# Altium footprint library HARSH_Payload_PcbLib.PcbLib: 44 footprints (part 1 of 3)
Each footprint in its own frame and in the unit in brackets; x right, y up, seen from the top. Pads: shape width x height; smd on the part's side, far side on the other; paste and mask are expansions set on the pad; w line width, h text height; cw(c..) or ccw(c..) is an arc to the next point about the centre after c.
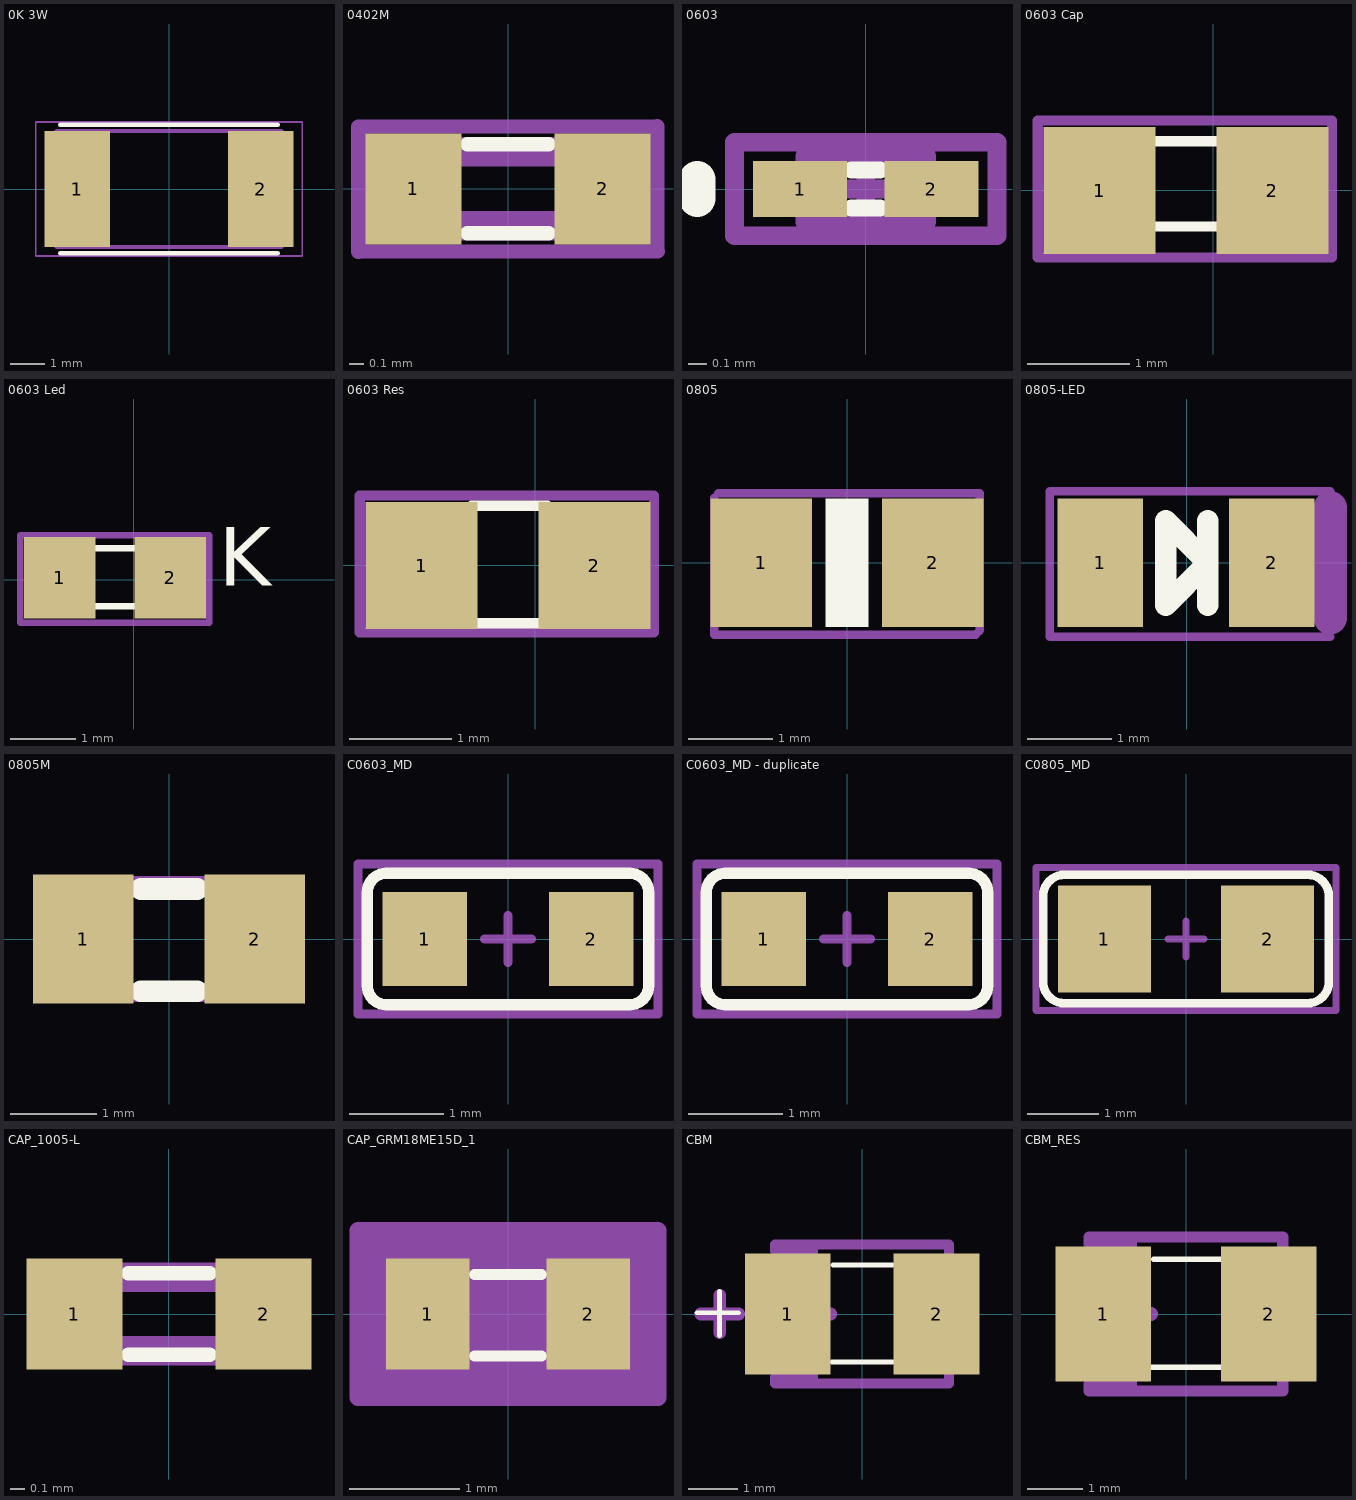
[diagram p0: the footprints below, top view; thin cyan lines are the x and y axes]

## 0K 3W [mm]
pads (2):
  rect 1.9x3.37 smd: 1(-2.66,0) 2(2.66,0)
Top Overlay:
  lines w0.127: -3.15,-1.865 3.15,-1.865 ; -3.15,1.865 3.15,1.865
Mechanical 1:
  lines w0.05: -3.86,-1.94 3.86,-1.94 3.86,1.94 -3.86,1.94 -3.86,-1.94
  lines w0.127: -3.25,-1.68 3.25,-1.68 3.25,1.68 -3.25,1.68 -3.25,-1.68
3D body "RCL1225.step": height 0.8, standoff 0, extent -3.351,-1.675 3.149,1.725

## 0402M [mil] "0402M"
pads (2):
  rect 26x30 smd: 1(-25.59,0) 2(25.59,0)
Top Overlay:
  lines w3.94: -11,-12 11,-12 ; -11,12 11,12
Mechanical 2:
  lines w8: -20,-10 20,-10 ; -20,10 20,10
Mechanical 3:
  lines w3.94: -40.55,16.83 40.35,16.93 40.35,-16.83 ; -40.45,-17.03 40.45,-16.93 ; -40.45,-16.93 -40.45,16.83
  text "'.Designator'" at -44.09,-12.6 h27.56
Mechanical 16:
  lines w8: -20,-10 -20,10 ; 20,-10 20,10
3D body "CAPC-0402-T0.55-BN.stp": height 21.65, standoff 0, extent -20.66,-10.82 20.68,10.83

## 0603 [mm] "Chip Inductor, Body 0.6x0.3mm, IPC High Density"
height 0.55
pads (2):
  rect 0.5x0.3 smd: 1(-0.35,0) 2(0.35,0)
Top Overlay:
  lines w0.09: -0.076,-0.102 0.076,-0.102 ; -0.076,0.102 0.076,0.102
  lines w0.2: -0.9,-0.05 -0.9,0.05
Mechanical 13:
  lines w0.1: -0.325,-0.175 0.325,-0.175 0.325,0.175 -0.325,0.175 -0.325,-0.175
ASM Top:
  lines w0.1: -0.175,0 0.175,0 ; 0,-0.175 0,0.175 ; -0.7,-0.25 0.7,-0.25 0.7,0.25 -0.7,0.25 -0.7,-0.25
3D body: height 0.55, standoff 0, extent -0.325,-0.175 0.325,0.175

## 0603 Cap [mm] "0603 Cap"
height 0.8
pads (2):
  rect 1.1x1.25 smd: 1(-1.118,-0.002) 2(0.583,-0.002)
Top Overlay:
  lines w0.1: -0.648,0.483 0.102,0.483 ; -0.623,-0.356 0.127,-0.356
ASM Top:
  lines w0.1: -1.725,-0.66 1.168,-0.66 1.168,0.686 -1.725,0.686 -1.725,-0.66
  text ".Designator" at -1.075,-0.175 h0.5
3D body "CAPC-0603-T0.9-BN.stp": height 0.44, standoff -0.46, extent -1.118,-0.453 0.583,0.448

## 0603 Led [mm] "0603 2"
height 0.8
pads (2):
  rect 1.1x1.25 smd: 1(-1.145,0.03) 2(0.555,0.03)
Top Overlay:
  lines w0.1: -0.648,0.483 0.102,0.483 ; -0.643,-0.407 0.108,-0.407
  text "K" at 1.308,-0.395 h1.54
ASM Top:
  lines w0.1: -1.747,-0.66 1.158,-0.66 1.158,0.686 -1.747,0.686 -1.747,-0.66
  text ".Designator" at -1.075,-0.175 h0.5
3D body "CAPC-0603-T0.9-BN.stp": height 0.44, standoff -0.46, extent -1.133,-0.413 0.568,0.488

## 0603 Res [mm] "0603 Res"
height 0.8
pads (2):
  rect 1.1x1.25 smd: 1(-1.118,-0.002) 2(0.583,-0.002)
Top Overlay:
  lines w0.1: -0.633,-0.57 0.118,-0.57 ; -0.628,0.585 0.122,0.585
ASM Top:
  lines w0.1: -1.725,-0.66 1.168,-0.66 1.168,0.686 -1.725,0.686 -1.725,-0.66
  text ".Designator" at -1.075,-0.175 h0.5
3D body "RESC-0603.stp": height 0.54, standoff -0.01, extent -1.107,-0.44 0.593,0.46

## 0805 [mil]
pads (2):
  rect 47.24x60 smd: 1(-40,0) 2(40,0)
Top Overlay:
  rectangle: -10,-30 10,30
ASM Top:
  lines w3.94: -62.01,30.51 -62.01,-33.46 60.04,-33.46 62.01,-31.5 62.01,32.48 -60.04,32.48
  text ".Designator" at -58.7,-2.44 h19.68
3D body "RES0805(2012M).STEP": height 31.1, standoff 0, extent -49.37,-24.49 49.38,24.51

## 0805-LED [mil]
height 122.05
pads (2):
  rect 40x60 smd: 1(-40.35,0) 2(39.65,0)
Top Overlay:
  lines w10: 9.84,-19.68 9.84,19.68 ; -9.84,-19.68 9.84,0 -9.84,19.68 -9.84,-19.68
ASM Top:
  lines w3.94: 66.93,-34.45 -63.98,-34.45 -63.98,33.46 66.93,33.46
  lines w15.75: 66.93,-25.59 66.93,25.59
  text ".Designator" at -41.34,-1.97 h19.68
3D body "User Library-led_0805LED0805_red.STEP": height 43.31, standoff 0, extent -39.76,-24.6 39.77,24.61

## 0805M [mil] "0805M"
pads (2):
  rect 46x59 smd: 1(-39.37,0) 2(39.37,0)
Top Overlay:
  lines w10: -13,-24 13,-24 ; -13,23 13,23
Mechanical 3:
  lines w8: -40,-25 40,-25 ; -40,25 40,25
Mechanical 16:
  lines w8: -40,-25 -40,25 ; 40,-25 40,25
3D body "4444444444444444444444444.step": height 54, standoff -3.09, extent -43.31,-30 43.31,27.09
3D body: height 10, standoff 0, extent -20,80 -20,80

## C0603_MD [mm] "Chip Capacitor, Body 1.6x0.8mm, IPC Medium Density"
height 0.85
pads (2):
  rect 0.9x1 smd: 1(-0.889,0) 2(0.889,0)
Top Overlay:
  lines w0.12: -1.5,-0.5 ccw(c-1.3,-0.5) -1.3,-0.7 1.3,-0.7 ccw(c1.3,-0.5) 1.5,-0.5 1.5,0.5 ccw(c1.3,0.5) 1.3,0.7 -1.3,0.7 ccw(c-1.3,0.5) -1.5,0.5 -1.5,-0.5
ASM Top:
  lines w0.1: -0.25,0 0.25,0 ; 0,-0.25 0,0.25 ; -1.6,-0.8 1.6,-0.8 1.6,0.8 -1.6,0.8 -1.6,-0.8
3D body "C0603.step": height 0.79, standoff 0, extent -1,-0.406 1,0.381

## C0603_MD - duplicate [mm] "Chip Capacitor, Body 1.6x0.8mm, IPC Medium Density"
height 0.85
pads (2):
  rect 0.9x1 smd: 1(-0.889,0) 2(0.889,0)
Top Overlay:
  lines w0.12: -1.5,-0.5 ccw(c-1.3,-0.5) -1.3,-0.7 1.3,-0.7 ccw(c1.3,-0.5) 1.5,-0.5 1.5,0.5 ccw(c1.3,0.5) 1.3,0.7 -1.3,0.7 ccw(c-1.3,0.5) -1.5,0.5 -1.5,-0.5
ASM Top:
  lines w0.1: -0.25,0 0.25,0 ; 0,-0.25 0,0.25 ; -1.6,-0.8 1.6,-0.8 1.6,0.8 -1.6,0.8 -1.6,-0.8
3D body "C0603.step": height 0.79, standoff 0, extent -1,-0.406 1,0.381

## C0805_MD [mm] "Chip Capacitor, Body 2.0x1.3mm, IPC Medium Density"
height 1.1
pads (2):
  rect 1.3x1.5 smd: 1(-1.143,0) 2(1.143,0)
Top Overlay:
  lines w0.12: -2,-0.6 ccw(c-1.7,-0.6) -1.7,-0.9 1.7,-0.9 ccw(c1.7,-0.6) 2,-0.6 2,0.6 ccw(c1.7,0.6) 1.7,0.9 -1.7,0.9 ccw(c-1.7,0.6) -2,0.6 -2,-0.6
ASM Top:
  lines w0.1: -0.25,0 0.25,0 ; 0,-0.25 0,0.25 ; -2.1,-1 2.1,-1 2.1,1 -2.1,1 -2.1,-1
3D body "C0805.step": height 0.79, standoff 0, extent -1.254,-0.61 1.254,0.635

## CAP_1005-L [mil]
pads (2):
  rect 26x30 smd: 1(-25.59,0) 2(25.59,0)
Top Overlay:
  lines w3.94: -11,-11 11,-11 ; -11,11 11,11
Mechanical 2:
  lines w8: -20,-10 20,-10 ; -20,10 20,10
Mechanical 16:
  lines w8: -20,-10 -20,10 ; 20,-10 20,10
3D body "CAP_1005-L.step": height 22.01, standoff 0, extent -20.5,-10.98 20.52,10.99

## CAP_GRM18ME15D_1 [mm]
pads (2):
  rect 0.753x1 smd paste+0 mask+0: 1(-0.727,0) 2(0.727,0)
Top Overlay:
  lines w0.1: -0.305,-0.381 0.305,-0.381 ; -0.305,0.356 0.305,0.356
Mechanical 13:
  circle w0: c-0.6,0 r0.076
  lines w0.025: -0.9,-0.5 -0.9,0.5 ; -0.9,-0.5 -0.35,-0.5 -0.35,0.5 -0.9,0.5 ; -0.9,-0.5 0.9,-0.5 ; -0.9,-0.5 -0.9,0.5 ; -0.9,0.5 0.9,0.5 ; 0.9,-0.5 0.35,-0.5 0.35,0.5 0.9,0.5 ; 0.9,-0.5 0.9,0.5 ; 0.9,-0.5 0.9,0.5
ASM Top:
  region: 1.357,-0.754 -1.357,-0.754 -1.357,0.754 1.357,0.754
  lines w0.152: -1.357,-0.754 -1.357,0.754 1.357,0.754 1.357,-0.754 -1.357,-0.754
3D body: height 0.25, standoff 0, extent -0.254,0.762 -0.254,0.762
3D body "CAP_GRM18ME15D_1P6XP8.step": height 1, standoff 0, extent -0.9,-0.5 0.9,0.5

## CBM [mil] "CBM"
pads (2):
  rect 68x96 smd: 1(-59.06,0) 2(59.06,0)
Top Overlay:
  lines w3.94: -131,1 -98,1 ; -113,-17 -113,18 ; -24,-38 24,-38 ; -23,39 24,39
Mechanical 2:
  lines w8: -69,-50 -69,-55 69,-55 69,-50 ; -69,50 -69,55 69,55 69,50
  lines w10: -128,0 -113,0 ; -113,-15 -113,0 ; -113,15 -113,0 ; -98,0 -113,0
Mechanical 16:
  region: -69,55 -35,55 -35,30 -55,30 -55,15 -69,15
  region: -69,-55 -69,-15 -55,-15 -55,-30 -35,-30 -35,-55
  lines w8: -69,-15 -69,15 ; 69,-49 69,50
  lines w10: -55,0 -40,0 ; -40,-15 -40,0 ; -40,15 -40,0 ; -25,0 -40,0
3D body "tttttttttttttttttttttttt.step": height 68.09, standoff -2.82, extent -66.93,-40.87 66.93,30
3D body: height 10, standoff 0, extent -22.5,77.5 -22.5,77.5

## CBM_RES [mil] "CBM"
pads (2):
  rect 68x96 smd: 1(-59.06,0) 2(59.06,0)
Top Overlay:
  lines w3.94: -24,-38 24,-38 ; -23,39 24,39
Mechanical 2:
  lines w8: -69,-50 -69,-55 69,-55 69,-50 ; -69,50 -69,55 69,55 69,50
Mechanical 16:
  region: -69,55 -35,55 -35,30 -55,30 -55,15 -69,15
  region: -69,-55 -69,-15 -55,-15 -55,-30 -35,-30 -35,-55
  lines w8: -69,-15 -69,15 ; 69,-49 69,50
  lines w10: -55,0 -40,0 ; -40,-15 -40,0 ; -40,15 -40,0 ; -25,0 -40,0
3D body "RES_VISHAY_WSLP1206.stp": height 35, standoff 0, extent -62.57,-35.43 73.41,37.8
3D body: height 10, standoff 0, extent -22.5,77.5 -22.5,77.5